# Altium footprint library DO-216AA.PcbLib: 1 footprints
Each footprint in its own frame and in the unit in brackets; x right, y up, seen from the top. Pads: shape width x height; smd on the part's side, far side on the other; paste and mask are expansions set on the pad; w line width, h text height; cw(c..) or ccw(c..) is an arc to the next point about the centre after c.
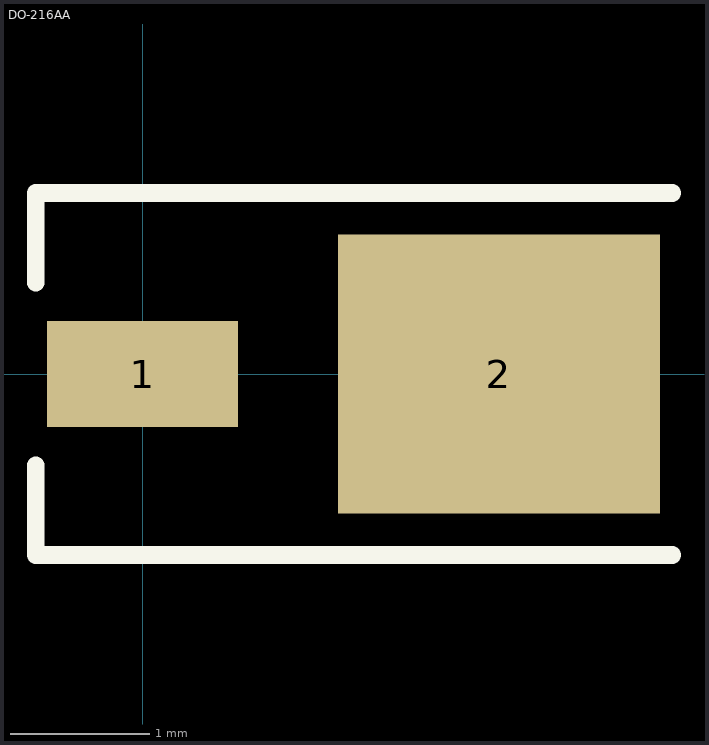
[diagram p0: the footprint, top view; thin cyan lines are the x and y axes]

## DO-216AA [mil] "DO-216AA"
height 70.87
pads (2):
  rect 54x30 smd paste+0 mask+0: 1(0,0)
  rect 91x79 smd paste+0 mask+0: 2(100.79,0)
Top Overlay:
  lines w5: -30.21,-25.78 -30.21,-51.18 149.79,-51.18 ; -30.21,25.78 -30.21,51.18 149.79,51.18
3D body: height 10, standoff 0, extent 59.64,-10 69.64,0
3D body "User Library-microsemi_powermite.STEP": height 40.24, standoff 0, extent -1.72,-37.6 146.31,37.59